# EAGLE library part DIP10SB (library dpst)
DIL/CODE SWITCH
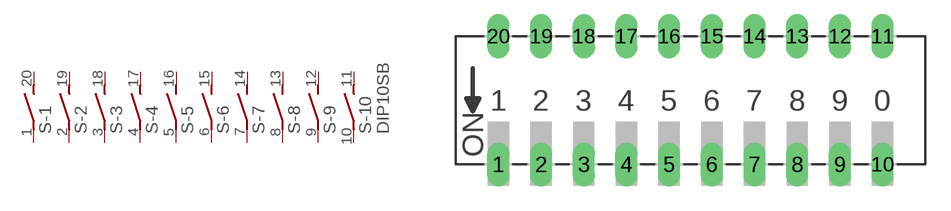
[diagram p7: symbol with the pads of DIP10SB; footprint DIP10SB]

Designator prefix S; gates -1=S -2=S -3=S -4=S -5=S -6=S -7=S -8=S -9=S -10=S+V

## DIP10SB (OC_FARNELL: unknown; OC_NEWARK: unknown)  [DIP10SB]
1  -1:1  pas
2  -2:1  pas
3  -3:1  pas
4  -4:1  pas
5  -5:1  pas
6  -6:1  pas
7  -7:1  pas
8  -8:1  pas
9  -9:1  pas
10  -10:1  pas
11  -10:2  pas
12  -9:2  pas
13  -8:2  pas
14  -7:2  pas
15  -6:2  pas
16  -5:2  pas
17  -4:2  pas
18  -3:2  pas
19  -2:2  pas
20  -1:2  pas

## Footprint DIP10SB (pad centres in mm)
DIL/CODE SWITCH
drill 0.813 long: 1 -11.43,-3.81; 2 -8.89,-3.81; 3 -6.35,-3.81; 4 -3.81,-3.81; 5 -1.27,-3.81; 6 1.27,-3.81; 7 3.81,-3.81; 8 6.35,-3.81; 9 8.89,-3.81; 10 11.43,-3.81; 11 11.43,3.81; 12 8.89,3.81; 13 6.35,3.81; 14 3.81,3.81; 15 1.27,3.81; 16 -1.27,3.81; 17 -3.81,3.81; 18 -6.35,3.81; 19 -8.89,3.81; 20 -11.43,3.81